# Altium footprint library ETQP3M1R0KVN.PcbLib: 1 footprints
Each footprint in its own frame and in the unit in brackets; x right, y up, seen from the top. Pads: shape width x height; smd on the part's side, far side on the other; paste and mask are expansions set on the pad; w line width, h text height; cw(c..) or ccw(c..) is an arc to the next point about the centre after c.
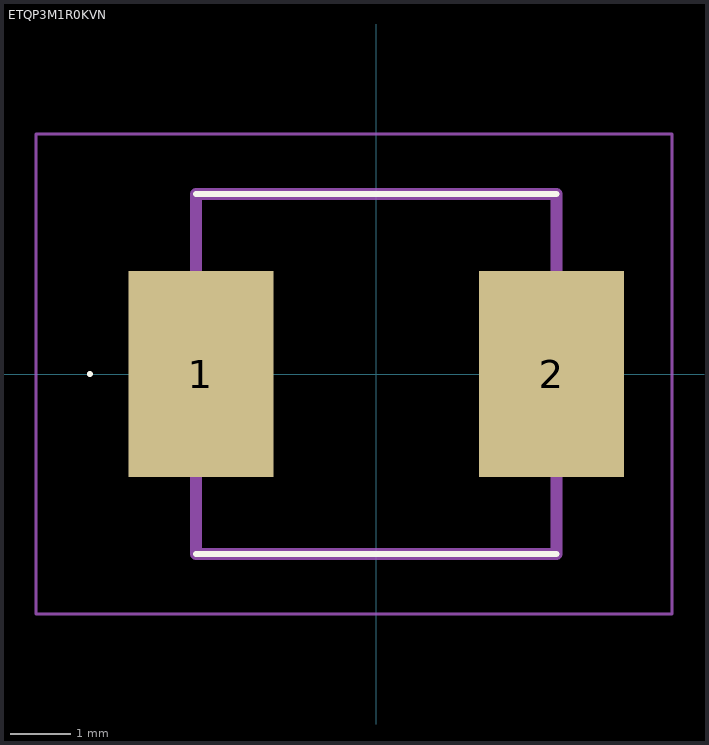
[diagram p0: the footprint, top view; thin cyan lines are the x and y axes]

## ETQP3M1R0KVN [mil]
pads (2):
  rect 95x135 smd: 1(-115,0) 2(115,0)
Top Overlay:
  lines w1.97: -188.82,0 -188.82,0 ; -188.82,0 ccw(c-187.83,0) -186.85,0 ; -188.82,0 cw(c-187.83,0) -186.85,0 ; -186.85,0 -186.85,0
  lines w3.94: -118.11,-118.11 118.11,-118.11 ; -118.11,118.11 118.11,118.11
Mechanical 15:
  lines w7.87: -118.11,-118.11 118.11,-118.11 118.11,118.11 -118.11,118.11 -118.11,-118.11
Mechanical 20:
  lines w1.97: -223.27,-157.48 194.02,-157.48 194.02,157.48 -223.27,157.48 -223.27,-157.48